# Altium footprint library WL18xxMODG.PcbLib: 1 footprints
Each footprint in its own frame and in the unit in brackets; x right, y up, seen from the top. Pads: shape width x height; smd on the part's side, far side on the other; paste and mask are expansions set on the pad; w line width, h text height; cw(c..) or ccw(c..) is an arc to the next point about the centre after c.
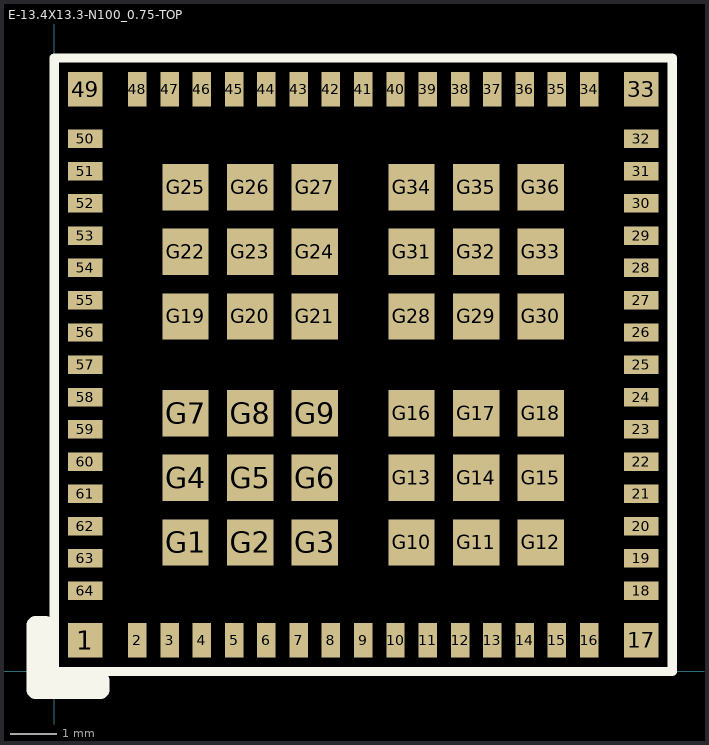
[diagram p0: the footprint, top view; thin cyan lines are the x and y axes]

## E-13.4X13.3-N100_0.75-TOP [mm]
pads (100):
  rect 0.75x0.75 smd mask+0.03: 1(0.675,0.675) 17(12.725,0.675) 33(12.725,12.625) 49(0.675,12.625)
  rect 0.4x0.75 smd mask+0.03: 2(1.8,0.675) 3(2.5,0.675) 4(3.2,0.675) 5(3.9,0.675) 6(4.6,0.675) 7(5.3,0.675) 8(6,0.675) 9(6.7,0.675) 10(7.4,0.675) 11(8.1,0.675) 12(8.8,0.675) 13(9.5,0.675) 14(10.2,0.675) 15(10.9,0.675) 16(11.6,0.675) 34(11.6,12.625) 35(10.9,12.625) 36(10.2,12.625) 37(9.5,12.625) 38(8.8,12.625) 39(8.1,12.625) 40(7.4,12.625) 41(6.7,12.625) 42(6,12.625) 43(5.3,12.625) 44(4.6,12.625) 45(3.9,12.625) 46(3.2,12.625) 47(2.5,12.625) 48(1.8,12.625)
  rect 0.75x0.4 smd mask+0.03: 18(12.725,1.75) 19(12.725,2.45) 20(12.725,3.15) 21(12.725,3.85) 22(12.725,4.55) 23(12.725,5.25) 24(12.725,5.95) 25(12.725,6.65) 26(12.725,7.35) 27(12.725,8.05) 28(12.725,8.75) 29(12.725,9.45) 30(12.725,10.15) 31(12.725,10.85) 32(12.725,11.55) 50(0.675,11.55) 51(0.675,10.85) 52(0.675,10.15) 53(0.675,9.45) 54(0.675,8.75) 55(0.675,8.05) 56(0.675,7.35) 57(0.675,6.65) 58(0.675,5.95) 59(0.675,5.25) 60(0.675,4.55) 61(0.675,3.85) 62(0.675,3.15) 63(0.675,2.45) 64(0.675,1.75)
  rect 1x1 smd mask+0.03: G1(2.85,2.8) G2(4.25,2.8) G3(5.65,2.8) G4(2.85,4.2) G5(4.25,4.2) G6(5.65,4.2) G7(2.85,5.6) G8(4.25,5.6) G9(5.65,5.6) G10(7.75,2.8) G11(9.15,2.8) G12(10.55,2.8) G13(7.75,4.2) G14(9.15,4.2) G15(10.55,4.2) G16(7.75,5.6) G17(9.15,5.6) G18(10.55,5.6) G19(2.85,7.7) G20(4.25,7.7) G21(5.65,7.7) G22(2.85,9.1) G23(4.25,9.1) G24(5.65,9.1) G25(2.85,10.5) G26(4.25,10.5) G27(5.65,10.5) G28(7.75,7.7) G29(9.15,7.7) G30(10.55,7.7) G31(7.75,9.1) G32(9.15,9.1) G33(10.55,9.1) G34(7.75,10.5) G35(9.15,10.5) G36(10.55,10.5)
Top Overlay:
  lines w0.2: 0,0 0,13.3 13.4,13.3 13.4,0 0,0
  lines w0.4: -0.4,-0.4 -0.4,1 -0.2,1 -0.2,-0.2 1,-0.2 1,-0.4 -0.4,-0.4
3D body "User Library-WL18xx.step": height 1.9, standoff 0, extent 0.081,0.031 13.381,13.431